# Altium integrated library TI Interface Serializer Deserializer.IntLib: 46 symbols (part 4 of 4)
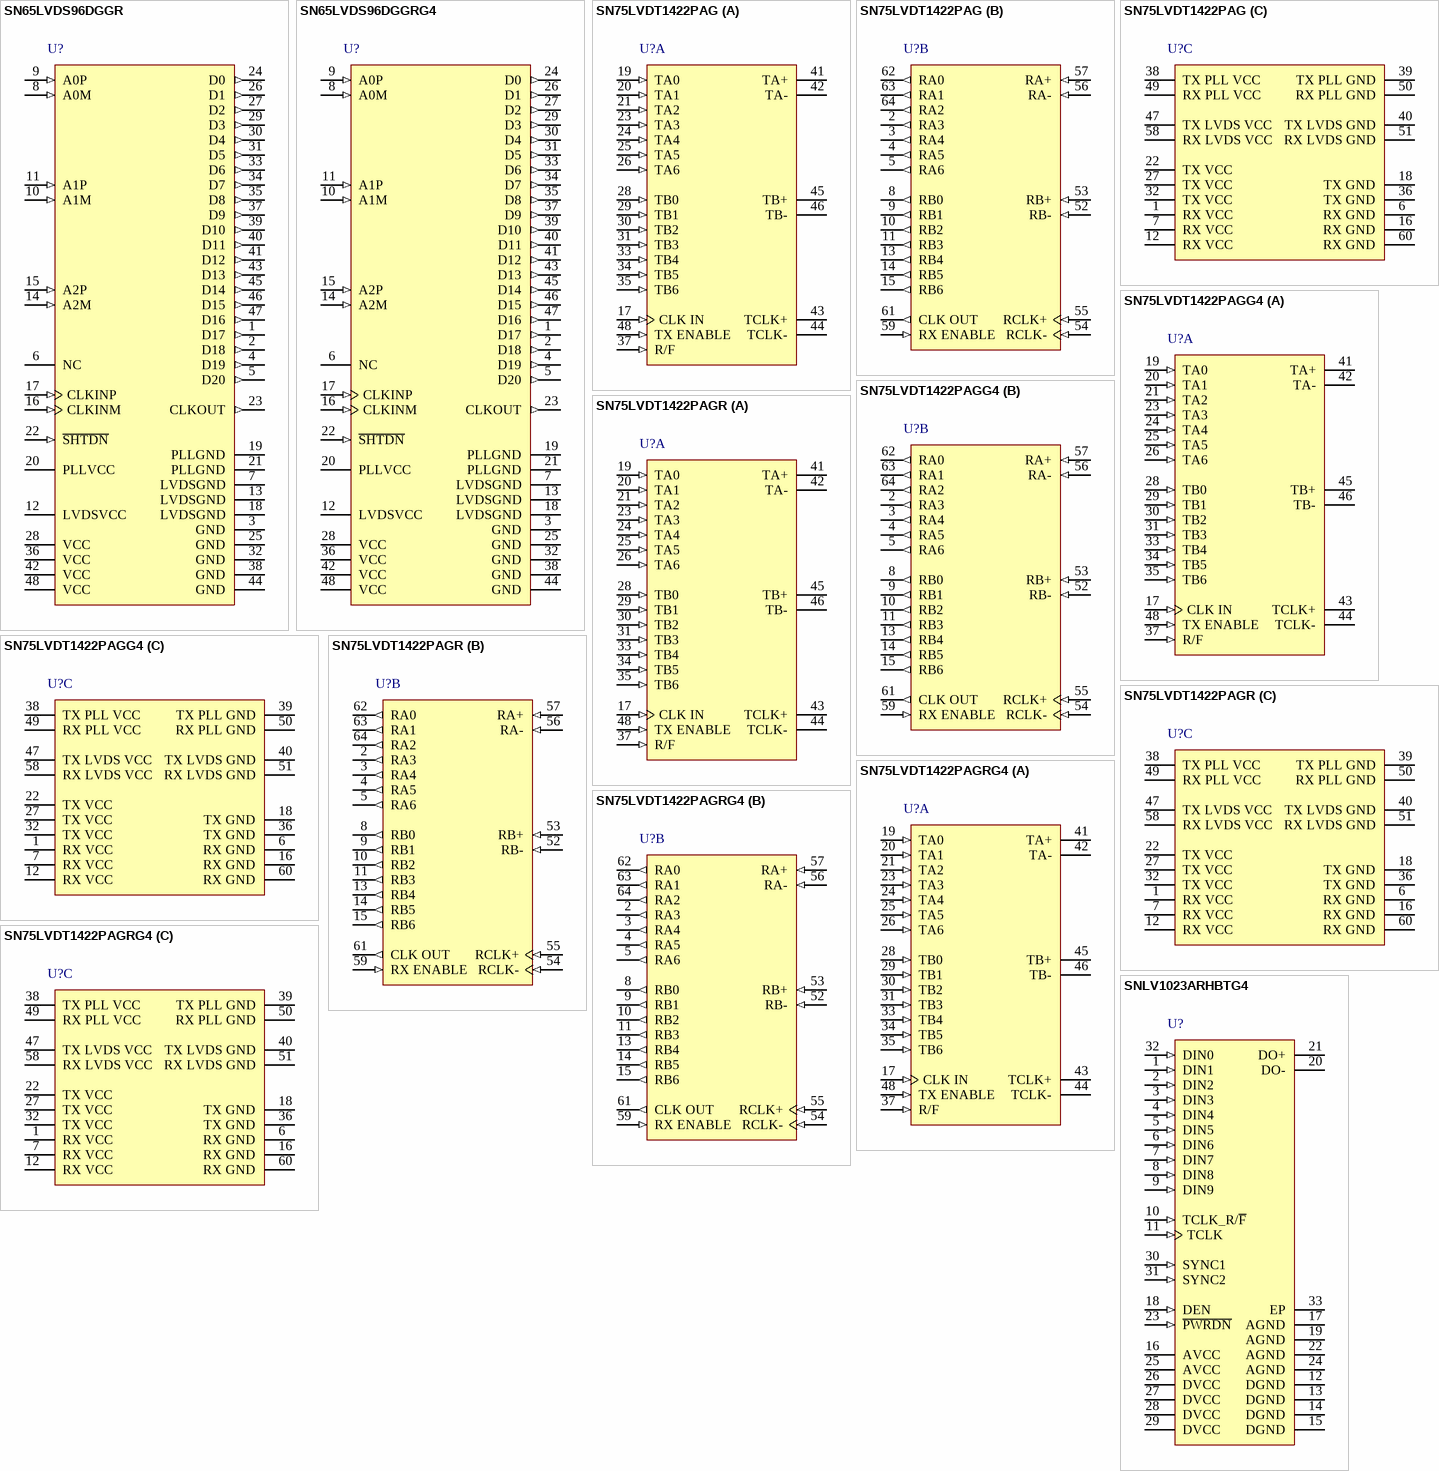
[diagram p7: symbols SN65LVDS96DGGR to SNLV1023ARHBTG4]

## SN75LVDT1422PAGRG4
designator U?
Full Duplex Serializer / De-Serializer, 3.3 V, 175 MB/s Data Throughput, 2 Receiver Channels, -10 to +70 degC, 64-pin TQFP (PAG), Green (RoHS & no Sb/Br); Manufacturer: Texas Instruments; PartNumber: SN75LVDT1422PAGRG4; Data Throughput(MB/s): 175; Driver tpd(ns): 3.95; ICC(mA): 49; Number of Parallel Inputs: 15; PLL Frequency(MHz): 10 - 100; Receiver (Vth)(mV): 100; Receiver tpd(ns): 9; SerDes: TRUE; Serial Data Receiver Channels: 2; SubFamily: LVDS Serdes (<100 MHz); Supply Voltage(s)(V): 3.3; Type of Line Circuit: SerDes; DatasheetVersion: SLLS653; PackageVersion: Dec-1996; PackageReference: PAG64; PackageDescription: 64-Pin Thin Quad Flat Pack 0.5 mm Pitch; Eco-Plan: Green (RoHS & no Sb/Br); Number of Parallel Outputs: 15; Serial Data Transmitter Channels: 2; Mounting Technology: Surface Mount; Code_JEDEC: MS-026; ComponentLink1Description: Datasheet; ComponentLink1URL: http://www.ti.com/general/docs/lit/getliterature.tsp?genericPartNumber=SN75LVDT1422&fileType=pdf; ComponentLink2Description: URL Link1; ComponentLink2URL: SamplesURL:http://www.ti.com/product/sn75lvdt1422#samples
footprint PAG64_N (Thin QFP, 64-Leads, Body 10x10mm, Pitch 0.5mm, IPC Medium Density)
footprint PAG64_L (Thin QFP, 64-Leads, Body 10x10mm, Pitch 0.5mm, IPC High Density)
footprint PAG64_M (Thin QFP, 64-Leads, Body 10x10mm, Pitch 0.5mm, IPC Low Density)
part A pins: 17 CLK IN (in) "CMOS/LVTTL Clock input", 19 TA0 (in) "Single-ended data inputs", 20 TA1 (in) "Single-ended data inputs", 21 TA2 (in) "Single-ended data inputs", 23 TA3 (in) "Single-ended data inputs", 24 TA4 (in) "Single-ended data inputs", 25 TA5 (in) "Single-ended data inputs", 26 TA6 (in) "Single-ended data inputs", 28 TB0 (in) "Single-ended data inputs", 29 TB1 (in) "Single-ended data inputs", 30 TB2 (in) "Single-ended data inputs", 31 TB3 (in) "Single-ended data inputs", 33 TB4 (in) "Single-ended data inputs", 34 TB5 (in) "Single-ended data inputs", 35 TB6 (in) "Single-ended data inputs", 37 R/F (in) "Input clock triggering edge select. High: Rising edge Low: Falling edge", 41 TA+ (hiz) "LVDS Data outputs", 42 TA- (hiz) "LVDS Data outputs", 43 TCLK+ (hiz) "LVDS Clock outputs", 44 TCLK- (hiz) "LVDS Clock outputs", 45 TB+ (hiz) "LVDS Data outputs", 46 TB- (hiz) "LVDS Data outputs", 48 TX ENABLE (in) "Transmitter enable:When asserted (low input), the driver outputs are high-impedance."
part B pins: 2 RA3 (out) "Single-ended data outputs", 3 RA4 (out) "Single-ended data outputs", 4 RA5 (out) "Single-ended data outputs", 5 RA6 (out) "Single-ended data outputs", 8 RB0 (out) "Single-ended data outputs", 9 RB1 (out) "Single-ended data outputs", 10 RB2 (out) "Single-ended data outputs", 11 RB3 (out) "Single-ended data outputs", 13 RB4 (out) "Single-ended data outputs", 14 RB5 (out) "Single-ended data outputs", 15 RB6 (out) "Single-ended data outputs", 52 RB- (in) "LVDS Data inputs", 53 RB+ (in) "LVDS Data inputs", 54 RCLK- (in) "LVDS Clock inputs", 55 RCLK+ (in) "LVDS Clock inputs", 56 RA- (in) "LVDS Data inputs", 57 RA+ (in) "LVDS Data inputs", 59 RX ENABLE (in) "Receiver enable: When asserted (low input), the receiver outputs go to a known low state.", 61 CLK OUT (out) "LVTTL Clock output", 62 RA0 (out) "Single-ended data outputs", 63 RA1 (out) "Single-ended data outputs", 64 RA2 (out) "Single-ended data outputs"
part C pins: 1 RX VCC (power) "Power supply pins for RX TTL outputs", 6 RX GND (power) "Ground pins for RX TTL outputs", 7 RX VCC (power) "Power supply pins for RX TTL outputs", 12 RX VCC (power) "Power supply pins for RX TTL outputs", 16 RX GND (power) "Ground pins for RX TTL outputs", 18 TX GND (power) "Ground pins for TX TTL inputs", 22 TX VCC (power) "Power supply pins for TX TTL inputs", 27 TX VCC (power) "Power supply pins for TX TTL inputs", 32 TX VCC (power) "Power supply pins for TX TTL inputs", 36 TX GND (power) "Ground pins for TX TTL inputs", 38 TX PLL VCC (power) "Power supply pin for PLL TX circuitry", 39 TX PLL GND (power) "Ground pin for PLL TX circuitry", 40 TX LVDS GND (power) "Ground pin for TX LVDS outputs", 47 TX LVDS VCC (power) "Power supply pin for TX LVDS outputs", 49 RX PLL VCC (power) "Power supply pin for PLL RX circuitry", 50 RX PLL GND (power) "Ground pin for PLL RX circuitry", 51 RX LVDS GND (power) "Ground pin for RX LVDS inputs", 58 RX LVDS VCC (power) "Power supply pin for RX LVDS inputs", 60 RX GND (power) "Ground pins for RX TTL outputs"

## SNLV1023ARHBTG4
designator U?
10:1 LVDS Serdes Transmitter 100 - 660 Mbps, 3.3 V, 660 MB/s Data Throughput, -40 to +85 degC, 32-pin QFN (RHB), Green (RoHS & no Sb/Br); Manufacturer: Texas Instruments; PartNumber: SNLV1023ARHBTG4; Data Throughput(MB/s): 660; ICC(mA): 95; Number of Parallel Inputs: 10; PLL Frequency(MHz): 10 - 66; Receiver (Vth)(mV): 100; Serial Data Transmitter Channels: 1; SubFamily: LVDS Serdes (<100 MHz); Supply Voltage(s)(V): 3.3; DatasheetVersion: SLLS621E; PackageVersion: revD, Jun-2011; PackageReference: RHB32-3450X3450TP; PackageDescription: 32-Pin Plastic Quad Flat No-Lead, 5 x 5 mm Body, 0.5 mm Pitch, 3.45 x 3.45 mm Exposed Pad; Eco-Plan: Green (RoHS & no Sb/Br); Type of Line Circuit: LVDS; Mounting Technology: Surface Mount; Code_JEDEC: MO-220; ComponentLink1Description: Datasheet; ComponentLink1URL: http://www.ti.com/general/docs/lit/getliterature.tsp?genericPartNumber=SN65LV1023A&fileType=pdf; ComponentLink2Description: URL Link1; ComponentLink2URL: SamplesURL:http://www.ti.com/product/sn65lv1023a#samples
footprint RHB32-3450X3450TP (QFN, 32-Leads, Body 5x5mm, Pitch 0.5mm, Thermal Pad 3.45x3.45mm, TI Recommended)
pins: 1 DIN1 (in) "Parallel LVTTL data inputs", 2 DIN2 (in) "Parallel LVTTL data inputs", 3 DIN3 (in) "Parallel LVTTL data inputs", 4 DIN4 (in) "Parallel LVTTL data inputs", 5 DIN5 (in) "Parallel LVTTL data inputs", 6 DIN6 (in) "Parallel LVTTL data inputs", 7 DIN7 (in) "Parallel LVTTL data inputs", 8 DIN8 (in) "Parallel LVTTL data inputs", 9 DIN9 (in) "Parallel LVTTL data inputs", 10 TCLK_R/~{F} (in) "LVTTL logic input. Low selects a TCLK falling-edge data strobe; high selects a TCLK rising-edge data strobe.", 11 TCLK (in) "LVTTL-level reference clock input. The SN65LV1023A accepts a 10-MHz to 66-MHz clock. TCLK strobes parallel data into the input latch and provides a reference frequency to the PLL.", 12 DGND (power) "Digital circuit ground", 13 DGND (power) "Digital circuit ground", 14 DGND (power) "Digital circuit ground", 15 DGND (power) "Digital circuit ground", 16 AVCC (power) "Analog circuit power supply (PLL and analog circuits)", 17 AGND (power) "Analog circuit ground (PLL and analog circuits)", 18 DEN (in) "LVTTL logic input. Low puts the LVDS serial output into the high-impedance state. High enables serial data output.", 19 AGND (power) "Analog circuit ground (PLL and analog circuits)", 20 DO- (hiz) "Inverting LVDS differential output", 21 DO+ (hiz) "Noninverting LVDS differential output", 22 AGND (power) "Analog circuit ground (PLL and analog circuits)", 23 ~{PWRDN} (in) "LVTTL logic input. Asserting this pin low turns off the PLL and places the outputs into the high-impedance state, putting the device into a low-power mode.", 24 AGND (power) "Analog circuit ground (PLL and analog circuits)", 25 AVCC (power) "Analog circuit power supply (PLL and analog circuits)", 26 DVCC (power) "Digital circuit power supply", 27 DVCC (power) "Digital circuit power supply", 28 DVCC (power) "Digital circuit power supply", 29 DVCC (power) "Digital circuit power supply", 30 SYNC1 (in) "LVTTL logic inputs SYNC1 and SYNC2 are ORed together. When at least one ofthe two pins is asserted high for 6 cycles of TCLK, the serializer initiates transmission of a minimum 1026 SYNC patterns. If after completion of the (See Datasheet)", 31 SYNC2 (in) "LVTTL logic inputs SYNC1 and SYNC2 are ORed together. When at least one ofthe two pins is asserted high for 6 cycles of TCLK, the serializer initiates transmission of a minimum 1026 SYNC patterns. If after completion of the (See Datasheet)", 32 DIN0 (in) "Parallel LVTTL data inputs", 33 EP "Exposed Thermal Pad"

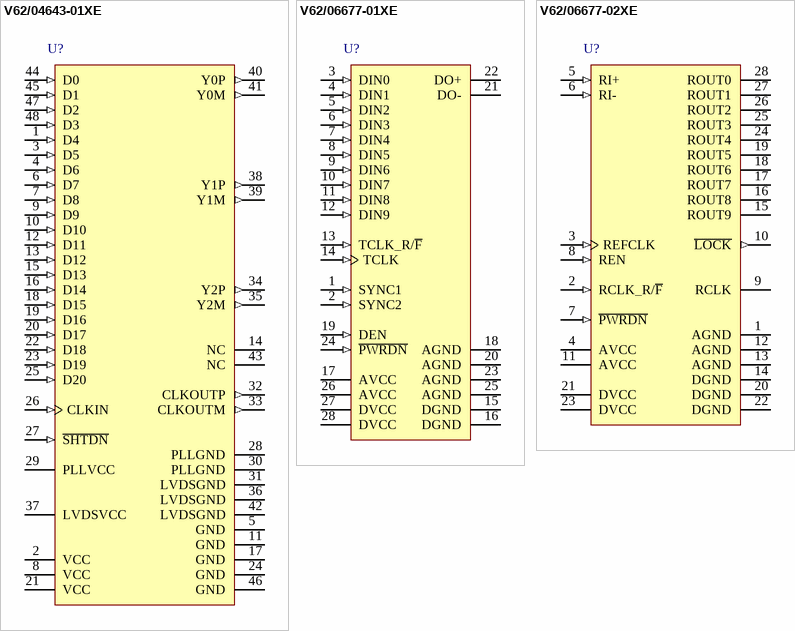
[diagram p4: symbols V62/04643-01XE to V62/06677-02XE]

## V62/04643-01XE
designator U?
Enhanced Product LVDS Serdes Transmitter, 3.3 V, 170.625 MB/s Data Throughput, -40 to +85 degC, 48-pin TSSOP (DGG), Green (RoHS & no Sb/Br); Manufacturer: Texas Instruments; PartNumber: V62/04643-01XE; ICC(mA): 110; Number of Parallel Inputs: 21; PLL Frequency(MHz): 20 - 68; SerDes: TRUE; Serial Data Transmitter Channels: 3; SubFamily: LVDS Serdes (<100 MHz); Supply Voltage(s)(V): 3.3; DatasheetVersion: SGLS206A; PackageVersion: revF, Dec-1997; PackageReference: DGG48; PackageDescription: 48-Pin Plastic Thin Shrink Small Outline Package 0.5 mm Pitch; Data Throughput(MB/s): 170.625; Eco-Plan: Green (RoHS & no Sb/Br); Type of Line Circuit: LVDS; Mounting Technology: Surface Mount; Code_JEDEC: MO-153; ComponentLink1Description: Datasheet; ComponentLink1URL: http://www.ti.com/general/docs/lit/getliterature.tsp?genericPartNumber=SN65LVDS95-EP&fileType=pdf; ComponentLink2Description: URL Link1; ComponentLink2URL: SamplesURL:http://www.ti.com/product/sn65lvds95-ep#samples
footprint DGG48_N (TSSOP, 48-Leads, Body 12.5x6.1mm, Pitch 0.5mm, IPC Medium Density)
footprint DGG48_L (TSSOP, 48-Leads, Body 12.5x6.1mm, Pitch 0.5mm, IPC High Density)
footprint DGG48_M (TSSOP, 48-Leads, Body 12.5x6.1mm, Pitch 0.5mm, IPC Low Density)
pins: 1 D4 (in), 2 VCC (power), 3 D5 (in), 4 D6 (in), 5 GND (power), 6 D7 (in), 7 D8 (in), 8 VCC (power), 9 D9 (in), 10 D10 (in), 11 GND (power), 12 D11 (in), 13 D12 (in), 14 NC, 15 D13 (in), 16 D14 (in), 17 GND (power), 18 D15 (in), 19 D16 (in), 20 D17 (in), 21 VCC (power), 22 D18 (in), 23 D19 (in), 24 GND (power), 25 D20 (in), 26 CLKIN (in), 27 ~{SHTDN} (in), 28 PLLGND (power), 29 PLLVCC (power), 30 PLLGND (power), 31 LVDSGND (power), 32 CLKOUTP (out), 33 CLKOUTM (out), 34 Y2P (out), 35 Y2M (out), 36 LVDSGND (power), 37 LVDSVCC (power), 38 Y1P (out), 39 Y1M (out), 40 Y0P (out), 41 Y0M (out), 42 LVDSGND (power), 43 NC, 44 D0 (in), 45 D1 (in), 46 GND (power), 47 D2 (in), 48 D3 (in)

## V62/06677-01XE
designator U?
Enhanced Product 10:1 Lvds Serdes Transmitter 100 - 660 Mbps, 660 MB/s Data Throughput, -55 to +125 degC, 28-pin SSOP (DB), Green (RoHS & no Sb/Br); Manufacturer: Texas Instruments; PartNumber: V62/06677-01XE; Data Throughput(MB/s): 660; ICC(mA): 95; Number of Parallel Inputs: 10; PLL Frequency(MHz): 10 - 66; Receiver (Vth)(mV): 50; SubFamily: LVDS Serdes (<100 MHz); DatasheetVersion: SGLS358; PackageVersion: revE, Dec-2001; PackageReference: DB28; PackageDescription: 28-Pin Plastic Small Outline Package, 10.2 x 5.3 mm Body, 0.65 mm Pitch; Eco-Plan: Green (RoHS & no Sb/Br); Number of Parallel Outputs: 10; Type of Line Circuit: LVDS; Mounting Technology: Surface Mount; Code_JEDEC: MO-150; ComponentLink1Description: Datasheet; ComponentLink1URL: http://www.ti.com/general/docs/lit/getliterature.tsp?genericPartNumber=SN65LV1023A-EP&fileType=pdf; ComponentLink2Description: URL Link1; ComponentLink2URL: SamplesURL:http://www.ti.com/product/sn65lv1023a-ep#samples
footprint DB28_N (SOP, 28-Leads, Body 10.2x5.3mm, Pitch 0.65mm, IPC Medium Density)
footprint DB28_L (SOP, 28-Leads, Body 10.2x5.3mm, Pitch 0.65mm, IPC High Density)
footprint DB28_M (SOP, 28-Leads, Body 10.2x5.3mm, Pitch 0.65mm, IPC Low Density)
pins: 1 SYNC1 (in) "LVTTL logic inputs SYNC1 and SYNC2 are ORed together. When at least one of the two pins is asserted high for 6 cycles of TCLK, the serializer initiates transmission of a minimum 1026 SYNC patterns.If after completion of the (See Datasheet)", 2 SYNC2 (in) "LVTTL logic inputs SYNC1 and SYNC2 are ORed together. When at least one of the two pins is asserted high for 6 cycles of TCLK, the serializer initiates transmission of a minimum 1026 SYNC patterns.If after completion of the (See Datasheet)", 3 DIN0 (in) "Parallel LVTTL data input.", 4 DIN1 (in) "Parallel LVTTL data input.", 5 DIN2 (in) "Parallel LVTTL data input.", 6 DIN3 (in) "Parallel LVTTL data input.", 7 DIN4 (in) "Parallel LVTTL data input.", 8 DIN5 (in) "Parallel LVTTL data input.", 9 DIN6 (in) "Parallel LVTTL data input.", 10 DIN7 (in) "Parallel LVTTL data input.", 11 DIN8 (in) "Parallel LVTTL data input.", 12 DIN9 (in) "Parallel LVTTL data input.", 13 TCLK_R/~{F} (in) "LVTTL logic inputs. Low selects a TCLK falling-edge data strobe; high selects a TCLK rising-edge data strobe.", 14 TCLK (in) "LVTTL-level reference clock input. The SN65LV1023A accepts a 10-MHz to 66-MHz clock. TCLK strobes parallel data into the input latch and provides a reference frequency to the PLL.", 15 DGND (power) "Digital circuit ground", 16 DGND (power) "Digital circuit ground", 17 AVCC (power) "Analog circuit power supply (PLL and analog circuits)", 18 AGND (power) "Analog circuit ground (PLL and analog circuits)", 19 DEN (in) "LVTTL logic input.Low puts the LVDS serial output into the high-impedance state.High enables serial data output.", 20 AGND (power) "Analog circuit ground (PLL and analog circuits)", 21 DO- (hiz) "Inverting LVDS differential output", 22 DO+ (hiz) "Noninverting LVDS differential output", 23 AGND (power) "Analog circuit ground (PLL and analog circuits)", 24 ~{PWRDN} (in) "LVTTL logic input.Asserting this pin low turns off the PLL and places the outputs into the high-impedance state,putting the device into a low-power mode.", 25 AGND (power) "Analog circuit ground (PLL and analog circuits)", 26 AVCC (power) "Analog circuit power supply (PLL and analog circuits)", 27 DVCC (power) "Digital circuit power supply", 28 DVCC (power) "Digital circuit power supply"

## V62/06677-02XE
designator U?
Enhanced Product 1:10 LVDS Serdes Receiver 100-660 Mbps, 3.3 V, 660 MB/s Data Throughput, 2 Receiver Channels, -55 to +125 degC, 28-pin SSOP (DB), Green (RoHS & no Sb/Br); Manufacturer: Texas Instruments; PartNumber: V62/06677-02XE; Data Throughput(MB/s): 660; ICC(mA): 80; Number of Parallel Outputs: 10; PLL Frequency(MHz): 10 - 66; Receiver (Vth)(mV): 50; Receiver tpd(ns): 8; Serial Data Receiver Channels: 2; SubFamily: LVDS Serdes (<100 MHz); Supply Voltage(s)(V): 3.3; DatasheetVersion: SGLS358; PackageVersion: revE, Dec-2001; PackageReference: DB28; PackageDescription: 28-Pin Plastic Small Outline Package, 10.2 x 5.3 mm Body, 0.65 mm Pitch; Eco-Plan: Green (RoHS & no Sb/Br); Type of Line Circuit: LVDS; Mounting Technology: Surface Mount; Code_JEDEC: MO-150; ComponentLink1Description: Datasheet; ComponentLink1URL: http://www.ti.com/general/docs/lit/getliterature.tsp?genericPartNumber=SN65LV1224B-EP&fileType=pdf; ComponentLink2Description: URL Link1; ComponentLink2URL: SamplesURL:http://www.ti.com/product/sn65lv1224b-ep#samples
footprint DB28_N (SOP, 28-Leads, Body 10.2x5.3mm, Pitch 0.65mm, IPC Medium Density)
footprint DB28_L (SOP, 28-Leads, Body 10.2x5.3mm, Pitch 0.65mm, IPC High Density)
footprint DB28_M (SOP, 28-Leads, Body 10.2x5.3mm, Pitch 0.65mm, IPC Low Density)
pins: 1 AGND (power) "Analog circuit ground (PLL and analog circuits)", 2 RCLK_R/~{F} (in) "LVTTL logic input. Low selects an PCLK falling-edge data strobe; high selects an RCLK rising-edge data strobe.", 3 REFCLK (in) "LVTTL logic input. Use this pin to supply a REFCLK signal for the internal PLL frequency.", 4 AVCC (power) "Analog circuit power supply (PLL and analog circuits)", 5 RI+ (in) "Serial data input. Noninverting LVDS differential input", 6 RI- (in) "Serial data input. Inverting LVDS differential input", 7 ~{PWRDN} (in) "LVTTL logic input. Asserting this pin low turns off the PLL and places outputs into a high-impedance state, putting the device into a low-power mode. To initiate power down, this pin is held low for a minimum of 16 ns.As (See Datasheet)", 8 REN (in) "LVTTL logic input. Low places ROUT0", 9 RCLK (hiz) "LVTTL level output recovered clock. Use RCLK to strobe ROUTx", 10 ~{LOCK} (out) "LVTTL level output.L\O\C\K\ goes low when the deserializer PLL locks onto the embedded clock edge", 11 AVCC (power) "Analog circuit power supply (PLL and analog circuits)", 12 AGND (power) "Analog circuit ground (PLL and analog circuits)", 13 AGND (power) "Analog circuit ground (PLL and analog circuits)", 14 DGND (power) "Digital circuit ground", 15 ROUT9 (hiz) "Parallel LVTTL data outputs", 16 ROUT8 (hiz) "Parallel LVTTL data outputs", 17 ROUT7 (hiz) "Parallel LVTTL data outputs", 18 ROUT6 (hiz) "Parallel LVTTL data outputs", 19 ROUT5 (hiz) "Parallel LVTTL data outputs", 20 DGND (power) "Digital circuit ground", 21 DVCC (power) "Digital circuit power supply", 22 DGND (power) "Digital circuit ground", 23 DVCC (power) "Digital circuit power supply", 24 ROUT4 (hiz) "Parallel LVTTL data outputs", 25 ROUT3 (hiz) "Parallel LVTTL data outputs", 26 ROUT2 (hiz) "Parallel LVTTL data outputs", 27 ROUT1 (hiz) "Parallel LVTTL data outputs", 28 ROUT0 (hiz) "Parallel LVTTL data outputs"